# Altium schematic symbol library INA240A2PWR.SchLib: 1 symbol
Pins are listed as number, name and electrical type; pins without a type are passive.

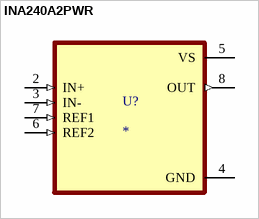
[diagram p0: symbol INA240A2PWR]

## INA240A2PWR
designator U?
MF: {'manufacturer': u'Texas Instruments'}; MP: INA240A2PWR; Price: None; Availability: Unavailable; Package: None; Value: *
footprint SOP65P640X120-8N
pins: 2 IN+ (in), 3 IN- (in), 4 GND (power), 5 VS (power), 6 REF2 (in), 7 REF1 (in), 8 OUT (out)